# EAGLE library part FDC6306P_D (library transistor-fet)
Dual P-Channel MOSFET 1.8V PowerTrench Specified
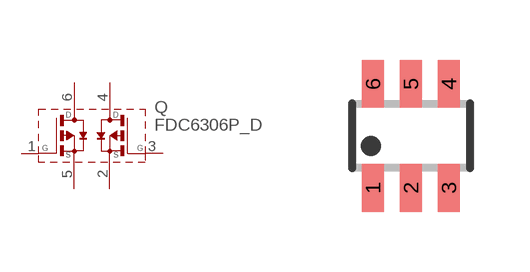
[diagram p14: symbol with the pads of SSOT-6; footprint SSOT-6]

Designator prefix Q

## FDC6306P_D  [SSOT-6]
1  G1  pas
2  S2  pas
3  G2  pas
4  D2  pas
5  S1  pas
6  D1  pas

## Footprint SSOT-6 (pad centres in mm)
Small Outline Transistor
smd 0.55 x 1.2: 1 -0.95,-1.3; 2 0,-1.3; 3 0.95,-1.3; 4 0.95,1.3; 5 0,1.3; 6 -0.95,1.3